# EAGLE library part SPRINGCON_AST125_3X2 (library xMZ-Mod-Touch-Bodenplatine)
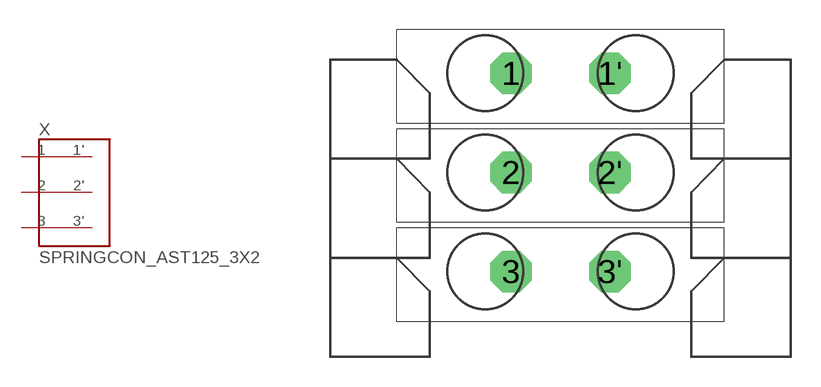
[diagram p0: symbol with the pads of SPRINGCON_AST125_3X2; footprint SPRINGCON_AST125_3X2]

Designator prefix X

## SPRINGCON_AST125_3X2  [SPRINGCON_AST125_3X2]
1  1  pas
1'  1  pas
2  2  pas
2'  2  pas
3  3  pas
3'  3  pas

## Footprint SPRINGCON_AST125_3X2 (pad centres in mm)
drill 1.4 octagon: 1 -2.5,5; 1' 2.5,5; 2 -2.5,0; 2' 2.5,0; 3 -2.5,-5; 3' 2.5,-5